# EAGLE library part 79109-34_S (library untitled)
RECEPTACAL
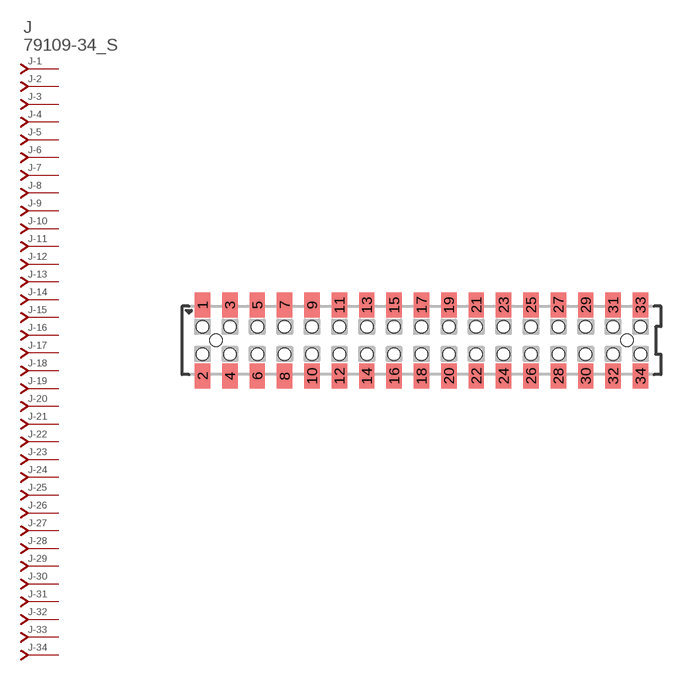
[diagram p273: symbol with the pads of 79109-34; footprint 79109-34]

Designator prefix J; gates -1=J-NV -2=J-N -3=J-N -4=J-N -5=J-N -6=J-N -7=J-N -8=J-N -9=J-N -10=J-N -11=J-N -12=J-N -13=J-N -14=J-N -15=J-N -16=J-N -17=J-N -18=J-N -19=J-N -20=J-N -21=J-N -22=J-N -23=J-N -24=J-N -25=J-N -26=J-N -27=J-N -28=J-N -29=J-N -30=J-N -31=J-N -32=J-N -33=J-N -34=J-N

## 79109-34_S  [79109-34]
1  -1:J  pas
2  -2:J  pas
3  -3:J  pas
4  -4:J  pas
5  -5:J  pas
6  -6:J  pas
7  -7:J  pas
8  -8:J  pas
9  -9:J  pas
10  -10:J  pas
11  -11:J  pas
12  -12:J  pas
13  -13:J  pas
14  -14:J  pas
15  -15:J  pas
16  -16:J  pas
17  -17:J  pas
18  -18:J  pas
19  -19:J  pas
20  -20:J  pas
21  -21:J  pas
22  -22:J  pas
23  -23:J  pas
24  -24:J  pas
25  -25:J  pas
26  -26:J  pas
27  -27:J  pas
28  -28:J  pas
29  -29:J  pas
30  -30:J  pas
31  -31:J  pas
32  -32:J  pas
33  -33:J  pas
34  -34:J  pas

## Footprint 79109-34 (pad centres in mm)
RECEPTACAL SMD Dual Row, Vertical, Pass-Thru
smd 1.12 x 1.83: 1 -16,2.6; 2 -16,-2.6; 3 -14,2.6; 4 -14,-2.6; 5 -12,2.6; 6 -12,-2.6; 7 -10,2.6; 8 -10,-2.6; 9 -8,2.6; 10 -8,-2.6; 11 -6,2.6; 12 -6,-2.6; 13 -4,2.6; 14 -4,-2.6; 15 -2,2.6; 16 -2,-2.6; 17 0,2.6; 18 0,-2.6; 19 2,2.6; 20 2,-2.6; 21 4,2.6; 22 4,-2.6; 23 6,2.6; 24 6,-2.6; 25 8,2.6; 26 8,-2.6; 27 10,2.6; 28 10,-2.6; 29 12,2.6; 30 12,-2.6; 31 14,2.6; 32 14,-2.6; 33 16,2.6; 34 16,-2.6
hole 0.914 at -15,0
hole 0.914 at -16,1
hole 0.914 at -16,-1
hole 0.914 at -14,-1
hole 0.914 at -14,1
hole 0.914 at -12,-1
hole 0.914 at -12,1
hole 0.914 at 15,0
hole 0.914 at -10,1
hole 0.914 at -10,-1
hole 0.914 at -8,1
hole 0.914 at -8,-1
hole 0.914 at -6,1
hole 0.914 at -6,-1
hole 0.914 at -4,1
hole 0.914 at -4,-1
hole 0.914 at -2,-1
hole 0.914 at -2,1
hole 0.914 at 0,1
hole 0.914 at 0,-1
hole 0.914 at 2,1
hole 0.914 at 2,-1
hole 0.914 at 4,1
hole 0.914 at 4,-1
hole 0.914 at 6,-1
hole 0.914 at 6,1
hole 0.914 at 8,1
hole 0.914 at 10,1
hole 0.914 at 12,1
hole 0.914 at 8,-1
hole 0.914 at 10,-1
hole 0.914 at 12,-1
hole 0.914 at 14,-1
hole 0.914 at 16,-1
hole 0.914 at 14,1
hole 0.914 at 16,1